# EAGLE library part DCP020515D (library ic)
DCP02xxxxD: DC/DC converter (Burr-Brown) Single input, ± output, 2W
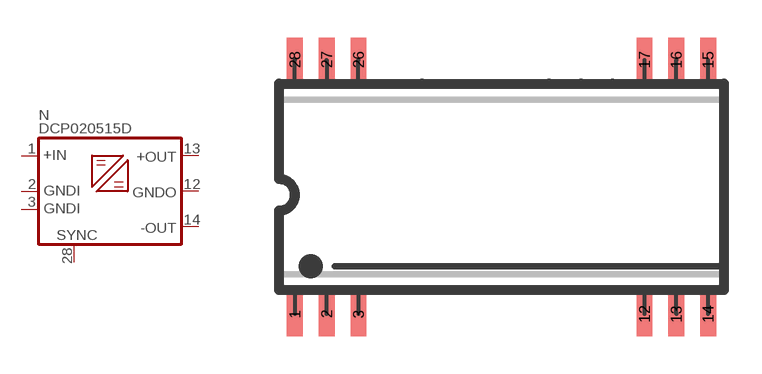
[diagram p140: symbol with the pads of SO28-12; footprint SO28-12]

Designator prefix N

## DCP020515D  [SO28-12]
1  +IN  pwr
2  GNDI  pwr
3  GNDI  pwr
12  GNDO  out
13  +OUT  out
14  -OUT  out
28  SYNC  in

## Footprint SO28-12 (pad centres in mm)
SO-28, SMD, 12 pins used SOIC IC package, 28 pins
smd 0.635 x 1.778: 1 -8.255,-5.08; 2 -6.985,-5.08; 3 -5.715,-5.08; 12 5.715,-5.08; 13 6.985,-5.08; 14 8.255,-5.08; 15 8.255,5.08; 16 6.985,5.08; 17 5.715,5.08; 26 -5.715,5.08; 27 -6.985,5.08; 28 -8.255,5.08